# Altium footprint library PcbLib1.PcbLib: 224 footprints (part 9 of 14)
Each footprint in its own frame and in the unit in brackets; x right, y up, seen from the top. Pads: shape width x height; smd on the part's side, far side on the other; paste and mask are expansions set on the pad; w line width, h text height; cw(c..) or ccw(c..) is an arc to the next point about the centre after c.
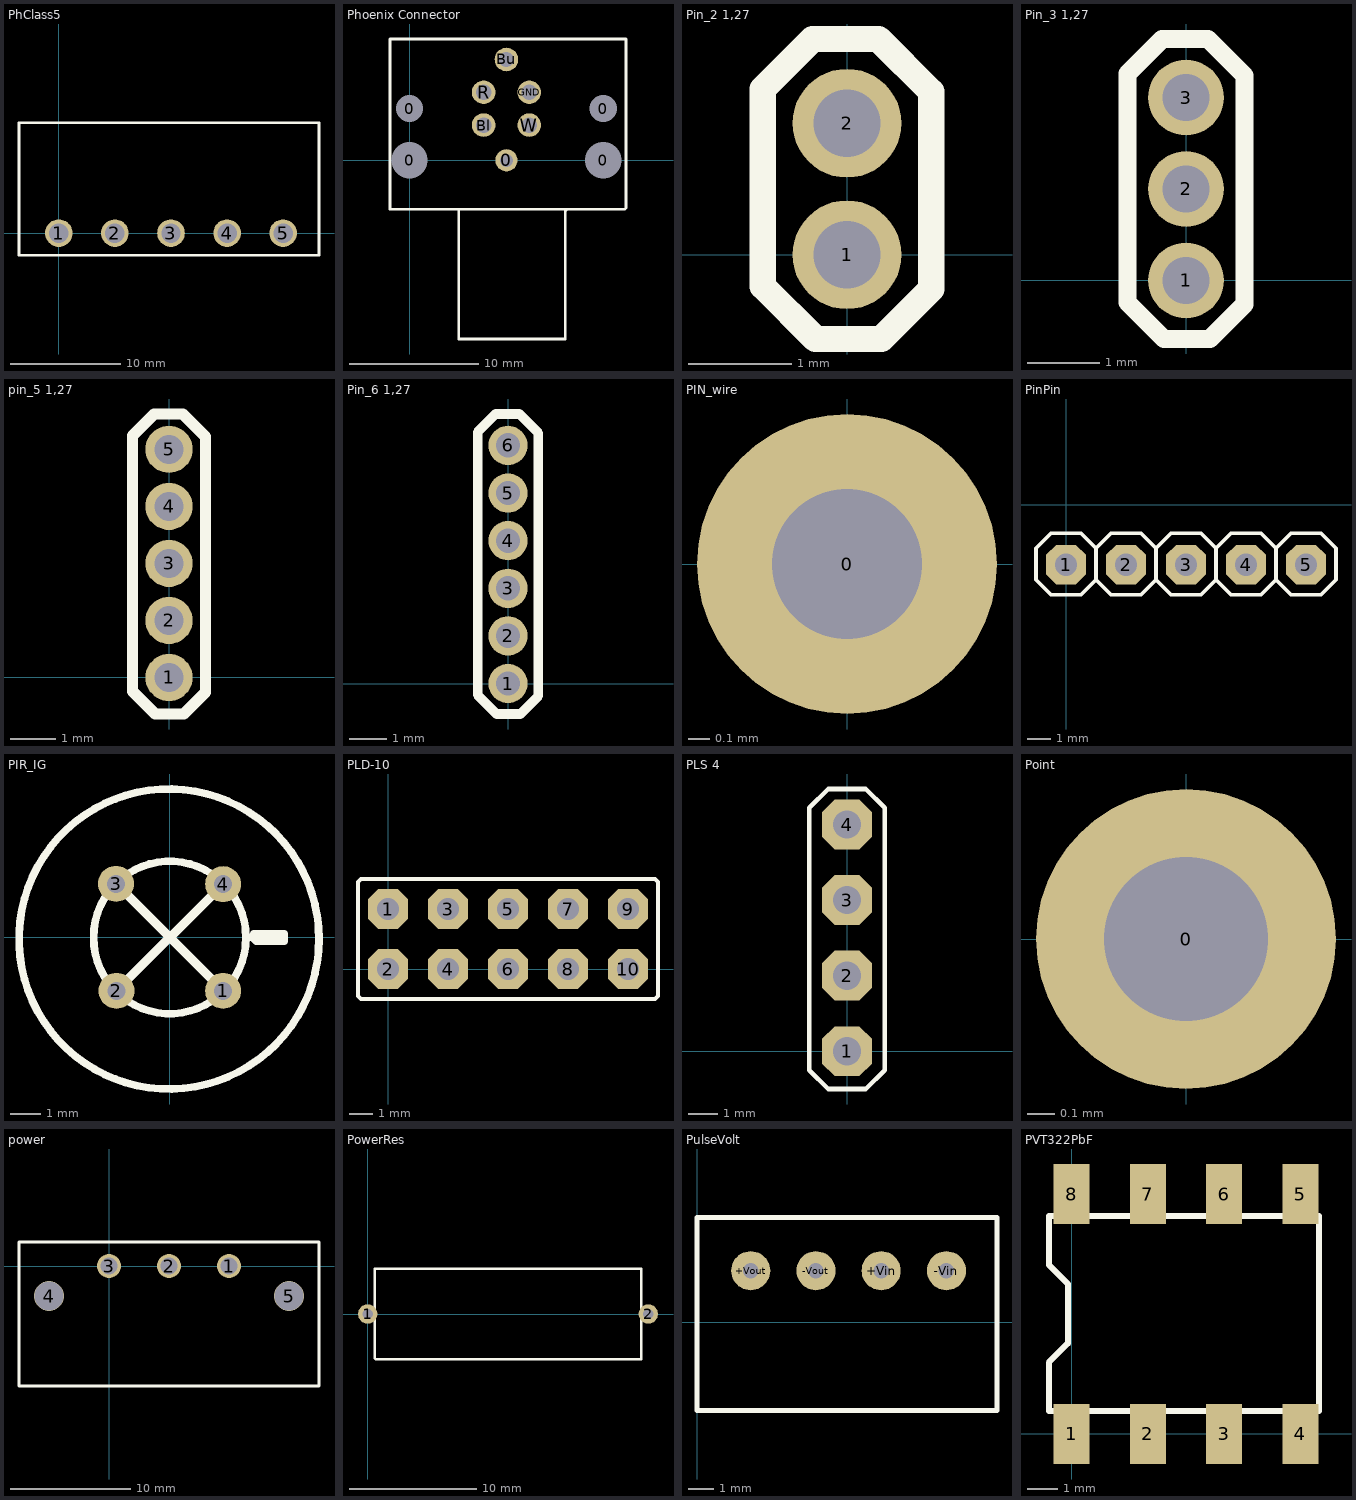
[diagram p8: the footprints below, top view; thin cyan lines are the x and y axes]

## PhClass5 [mm]
height 8
pads (5):
  round 2.5 hole 1.75: 1(0,0) 2(5.08,0) 3(10.16,0) 4(15.24,0) 5(20.32,0)
Top Overlay:
  lines w0.254: -3.6,-2 -3.6,10 23.56,10 23.56,-2 -3.6,-2

## Phoenix Connector [mm]
pads (10):
  round 1.524 hole 2.8: 0(0,0) 0(15,0)
  round 1.524 hole 2.1: 0(0,4) 0(15,4)
  round 1.724 hole 1: 0(7.5,0)
  round 1.824 hole 1.2: Bl(5.73,2.73) Bu(7.5,7.81) GND(9.27,5.27) R(5.73,5.27) W(9.27,2.73)
Top Overlay:
  lines w0.2: 3.81,-3.81 3.81,-13.843 12.065,-13.843 12.065,-3.927 12.192,-3.8 ; -1.524,-3.79 -1.514,-3.8 0,-3.8 15.23,-3.8 16.647,-3.8 16.764,-3.683 16.764,9.398 15.24,9.398 -1.524,9.398 -1.524,-3.79

## Pin_2 1,27 [mm]
height 2
pads (2):
  round 1.05 hole 0.65: 1(0,0) 2(0,1.27)
Top Overlay:
  lines w0.254: -0.813,-0.305 -0.305,-0.813 -0.152,-0.813 0.33,-0.813 0.813,-0.33 0.813,0.635 0.813,1.575 0.305,2.083 -0.33,2.083 -0.813,1.6 -0.813,0.635 -0.813,-0.305

## Pin_3 1,27 [mm]
height 2
pads (3):
  round 1.05 hole 0.65: 1(0,0) 2(0,1.27) 3(0,2.54)
Top Overlay:
  lines w0.254: -0.813,-0.305 -0.305,-0.813 -0.152,-0.813 0.33,-0.813 0.813,-0.33 0.813,0.635 0.813,2.845 0.305,3.353 -0.33,3.353 -0.813,2.87 -0.813,0.635 -0.813,-0.305

## pin_5 1,27 [mm]
height 2
pads (5):
  round 1.05 hole 0.65: 1(0,0) 2(0,1.27) 3(0,2.54) 4(0,3.81) 5(0,5.08)
Top Overlay:
  lines w0.254: -0.813,-0.305 -0.813,0.635 -0.813,2.515 -0.813,4.42 -0.813,5.385 -0.33,5.867 0.305,5.867 0.813,5.359 0.813,4.42 0.813,2.54 0.813,0.635 0.813,-0.33 0.33,-0.813 -0.152,-0.813 -0.305,-0.813 -0.813,-0.305

## Pin_6 1,27 [mm]
height 5
pads (6):
  round 1.05 hole 0.65: 1(0,0) 2(0,1.27) 3(0,2.54) 4(0,3.81) 5(0,5.08) 6(0,6.35)
Top Overlay:
  lines w0.254: -0.813,-0.305 -0.813,0.635 -0.813,2.515 -0.813,4.42 -0.813,6.706 -0.33,7.188 0.305,7.188 0.813,6.68 0.813,2.54 0.813,0.635 0.813,-0.33 0.33,-0.813 -0.152,-0.813 -0.305,-0.813 -0.813,-0.305

## PIN_wire [mm]
pads (1):
  round 1.4 hole 0.7: 0(0,0)

## PinPin [mil]
height 78.74
pads (5):
  oct 66x66 hole 37.4: 1(0,-100) 2(100,-100) 3(200,-100) 4(300,-100) 5(400,-100)
Top Overlay:
  rectangle: 390,-110 410,-90
  rectangle: 290,-110 310,-90
  rectangle: 90,-110 110,-90
  rectangle: -10,-110 10,-90
  rectangle: 190,-110 210,-90
  lines w6: 50,-125 50,-73 ; 50,-125 75,-150 125,-150 150,-125 ; 50,-125 25,-150 -25,-150 -50,-125 -50,-73 -25,-48 25,-48 50,-73 ; 50,-73 75,-48 125,-48 150,-73 ; 150,-125 150,-73 ; 150,-125 175,-150 225,-150 250,-125 ; 150,-73 175,-48 225,-48 250,-73 ; 250,-125 275,-150 325,-150 350,-125 ; 250,-125 250,-73 ; 250,-73 275,-48 325,-48 350,-73 ; 350,-125 375,-150 425,-150 450,-125 450,-73 425,-48 375,-48 350,-73 ; 350,-125 350,-73

## PIR_IG [mm]
pads (4):
  round 1.2 hole 0.6: 1(1.778,-1.778) 2(-1.778,-1.778) 3(-1.791,1.791) 4(1.778,1.778)
Top Overlay:
  circle w0.254: c0,0 r2.54
  circle w0.254: c-0.025,-0.051 r5
  lines w0.254: 2.75,0 2.877,-0.127 3.81,-0.127 3.81,0.127 2.794,0.127
  lines w0.3: -1.791,1.791 1.778,-1.778 ; -1.778,-1.778 1.778,1.778

## PLD-10 [mil]
pads (10):
  oct 66x66 hole 37.4: 1(0,100) 2(0,0) 3(100,100) 4(100,0) 5(200,100) 6(200,0) 7(300,100) 8(300,0) 9(400,100) 10(400,0)
Top Overlay:
  rectangle: 390,-10 410,10
  rectangle: 390,90 410,110
  rectangle: 190,-10 210,10
  rectangle: 190,90 210,110
  rectangle: 290,90 310,110
  rectangle: 290,-10 310,10
  rectangle: -10,-10 10,10
  rectangle: -10,90 10,110
  rectangle: 90,90 110,110
  rectangle: 90,-10 110,10
  lines w6: -50,-45 -45,-50 75,-50 175,-50 275,-50 375,-50 445,-50 450,-45 450,145 445,150 375,150 275,150 150,150 75,150 -45,150 -50,145 -50,-45

## PLS 4 [mil]
pads (4):
  oct 66x66 hole 37.4: 1(0,0) 2(0,100) 3(0,200) 4(0,300)
Top Overlay:
  lines w6: -50,321 -50,-25 -25,-50 25,-50 50,-25 50,321 ; -50,322 -25,347 25,347 50,322

## Point [mm]
pads (1):
  round 1.1 hole 0.6: 0(0,0)

## power [mm]
height 5
pads (5):
  round 2 hole 1.4: 1(10,0) 2(5,0) 3(0,0)
  round 2.5 hole 2.4: 4(-5,-2.5) 5(15,-2.5)
Top Overlay:
  lines w0.254: -7.5,-10 -7.5,2 9.5,2 17.5,2 17.5,-10 10,-10 2.5,-10 -7.5,-10
3D body: height 6, standoff 0, extent -7.493,-10.033 17.526,2.032

## PowerRes [mil]
height 236.22
pads (2):
  round 60 hole 31.5: 1(0,0) 2(866.14,0)
Top Overlay:
  lines w7.87: 844.14,136.59 844.14,-139 24.41,-139 22,-136.59 22,139 844.14,139

## PulseVolt [mm]
pads (4):
  round 1.524 hole 0.6: +Vin(7.17,2) +Vout(2.09,2) -Vin(9.71,2) -Vout(4.63,2)
Top Overlay:
  lines w0.2: 0,-3.436 0,4.064 11.68,4.064 11.68,-3.436 0,-3.436

## PVT322PbF [mm]
pads (8):
  rect 1.2x2 smd: 1(0,0) 2(2.54,0) 3(5.08,0) 4(7.62,0) 5(7.62,8) 6(5.08,8) 7(2.54,8) 8(0,8)
Top Overlay:
  lines w0.2: -0.762,0.762 8.238,0.762 8.238,7.262 -0.762,7.262 -0.762,5.637 -0.127,5.002 -0.127,3.022 -0.762,2.387 -0.762,0.762